# EAGLE library part STM32F4DISCOVERY (library stm32f4discovery)
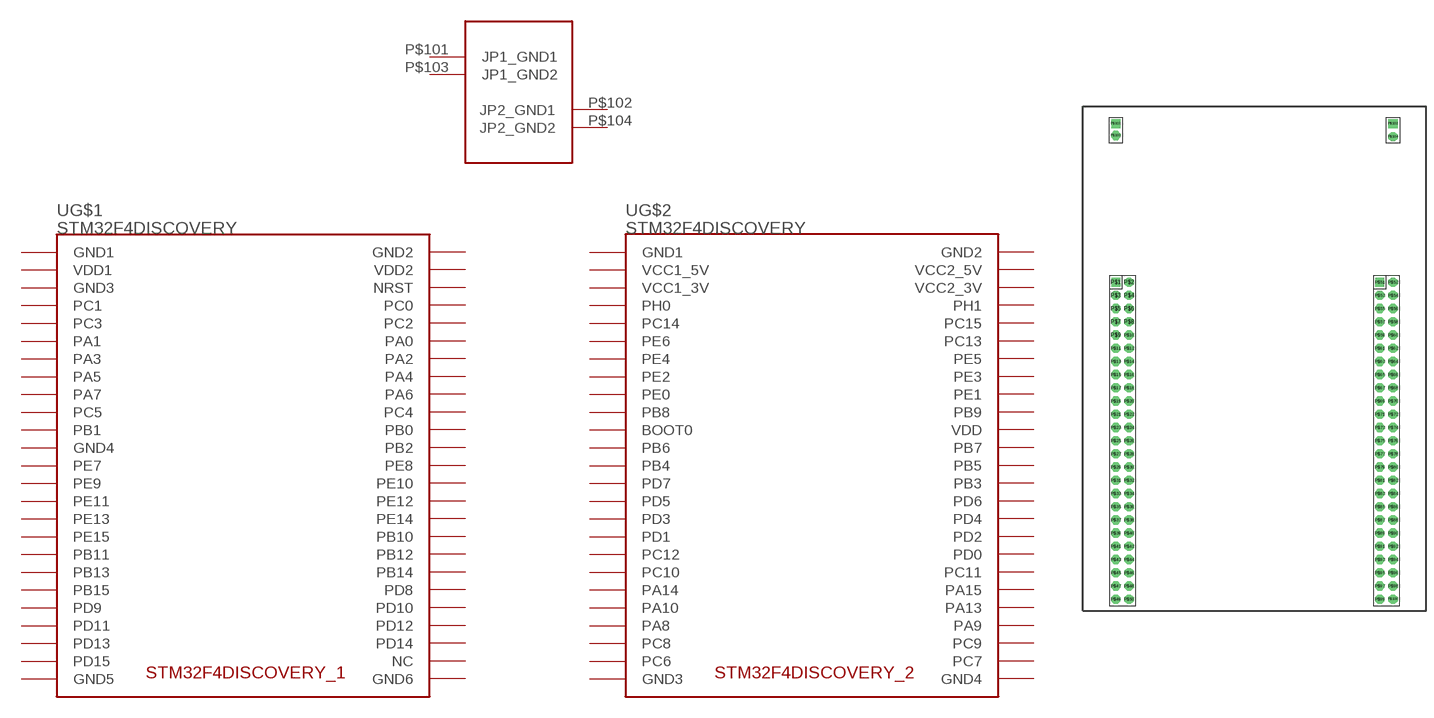
[diagram p0: symbol with the pads of STM32F4DISCOVERY; footprint STM32F4DISCOVERY]

Designator prefix -; gates G$1=STM32F4DISCOVERY_1 G$2=STM32F4DISCOVERY_2 G$3=STM32F4DISCOVERY_JP

## STM32F4DISCOVERY  [STM32F4DISCOVERY]
P$1  G$1:GND1
P$2  G$1:GND2
P$3  G$1:VDD1
P$4  G$1:VDD2
P$5  G$1:GND3
P$6  G$1:NRST
P$7  G$1:PC1
P$8  G$1:PC0
P$9  G$1:PC3
P$10  G$1:PC2
P$11  G$1:PA1
P$12  G$1:PA0
P$13  G$1:PA3
P$14  G$1:PA2
P$15  G$1:PA5
P$16  G$1:PA4
P$17  G$1:PA7
P$18  G$1:PA6
P$19  G$1:PC5
P$20  G$1:PC4
P$21  G$1:PB1
P$22  G$1:PB0
P$23  G$1:GND4
P$24  G$1:PB2
P$25  G$1:PE7
P$26  G$1:PE8
P$27  G$1:PE9
P$28  G$1:PE10
P$29  G$1:PE11
P$30  G$1:PE12
P$31  G$1:PE13
P$32  G$1:PE14
P$33  G$1:PE15
P$34  G$1:PB10
P$35  G$1:PB11
P$36  G$1:PB12
P$37  G$1:PB13
P$38  G$1:PB14
P$39  G$1:PB15
P$40  G$1:PD8
P$41  G$1:PD9
P$42  G$1:PD10
P$43  G$1:PD11
P$44  G$1:PD12
P$45  G$1:PD13
P$46  G$1:PD14
P$47  G$1:PD15
P$48  G$1:NC
P$49  G$1:GND5
P$50  G$1:GND6
P$51  G$2:GND1
P$52  G$2:GND2
P$53  G$2:VCC1_5V
P$54  G$2:VCC2_5V
P$55  G$2:VCC1_3V
P$56  G$2:VCC2_3V
P$57  G$2:PH0
P$58  G$2:PH1
P$59  G$2:PC14
P$60  G$2:PC15
P$61  G$2:PE6
P$62  G$2:PC13
P$63  G$2:PE4
P$64  G$2:PE5
P$65  G$2:PE2
P$66  G$2:PE3
P$67  G$2:PE0
P$68  G$2:PE1
P$69  G$2:PB8
P$70  G$2:PB9
P$71  G$2:BOOT0
P$72  G$2:VDD
P$73  G$2:PB6
P$74  G$2:PB7
P$75  G$2:PB4
P$76  G$2:PB5
P$77  G$2:PD7
P$78  G$2:PB3
P$79  G$2:PD5
P$80  G$2:PD6
P$81  G$2:PD3
P$82  G$2:PD4
P$83  G$2:PD1
P$84  G$2:PD2
P$85  G$2:PC12
P$86  G$2:PD0
P$87  G$2:PC10
P$88  G$2:PC11
P$89  G$2:PA14
P$90  G$2:PA15
P$91  G$2:PA10
P$92  G$2:PA13
P$93  G$2:PA8
P$94  G$2:PA9
P$95  G$2:PC8
P$96  G$2:PC9
P$97  G$2:PC6
P$98  G$2:PC7
P$99  G$2:GND3
P$100  G$2:GND4
P$101  G$3:JP1_GND1  pwr
P$102  G$3:JP2_GND1  pwr
P$103  G$3:JP1_GND2  pwr
P$104  G$3:JP2_GND2  pwr

## Footprint STM32F4DISCOVERY (pad centres in mm)
drill 1.1 pad 1.778 square: P$1 0,60.96; P$51 50.8,60.96; P$101 0,91.44; P$102 53.34,91.44
drill 1.1 pad 1.778 octagon: P$2 2.54,60.96; P$3 0,58.42; P$4 2.54,58.42; P$5 0,55.88; P$6 2.54,55.88; P$7 0,53.34; P$8 2.54,53.34; P$9 0,50.8; P$10 2.54,50.8; P$11 0,48.26; P$12 2.54,48.26; P$13 0,45.72; P$14 2.54,45.72; P$15 0,43.18; P$16 2.54,43.18; P$17 0,40.64; P$18 2.54,40.64; P$19 0,38.1; P$20 2.54,38.1; P$21 0,35.56; P$22 2.54,35.56; P$23 0,33.02; P$24 2.54,33.02; P$25 0,30.48; P$26 2.54,30.48; P$27 0,27.94; P$28 2.54,27.94; P$29 0,25.4; P$30 2.54,25.4; P$31 0,22.86; P$32 2.54,22.86; P$33 0,20.32; P$34 2.54,20.32; P$35 0,17.78; P$36 2.54,17.78; P$37 0,15.24; P$38 2.54,15.24; P$39 0,12.7; P$40 2.54,12.7; P$41 0,10.16; P$42 2.54,10.16; P$43 0,7.62; P$44 2.54,7.62; P$45 0,5.08; P$46 2.54,5.08; P$47 0,2.54; P$48 2.54,2.54; P$49 0,0; P$50 2.54,0; P$52 53.34,60.96; P$53 50.8,58.42; P$54 53.34,58.42; P$55 50.8,55.88; P$56 53.34,55.88; P$57 50.8,53.34; P$58 53.34,53.34; P$59 50.8,50.8; P$60 53.34,50.8; P$61 50.8,48.26; P$62 53.34,48.26; P$63 50.8,45.72; P$64 53.34,45.72; P$65 50.8,43.18; P$66 53.34,43.18; P$67 50.8,40.64; P$68 53.34,40.64; P$69 50.8,38.1; P$70 53.34,38.1; P$71 50.8,35.56; P$72 53.34,35.56; P$73 50.8,33.02; P$74 53.34,33.02; P$75 50.8,30.48; P$76 53.34,30.48; P$77 50.8,27.94; P$78 53.34,27.94; P$79 50.8,25.4; P$80 53.34,25.4; P$81 50.8,22.86; P$82 53.34,22.86; P$83 50.8,20.32; P$84 53.34,20.32; P$85 50.8,17.78; P$86 53.34,17.78; P$87 50.8,15.24; P$88 53.34,15.24; P$89 50.8,12.7; P$90 53.34,12.7; P$91 50.8,10.16; P$92 53.34,10.16; P$93 50.8,7.62; P$94 53.34,7.62; P$95 50.8,5.08; P$96 53.34,5.08; P$97 50.8,2.54; P$98 53.34,2.54; P$99 50.8,0; P$100 53.34,0; P$103 0,89.154; P$104 53.34,88.9